# EAGLE library part MAX31855 (library Custom_new)
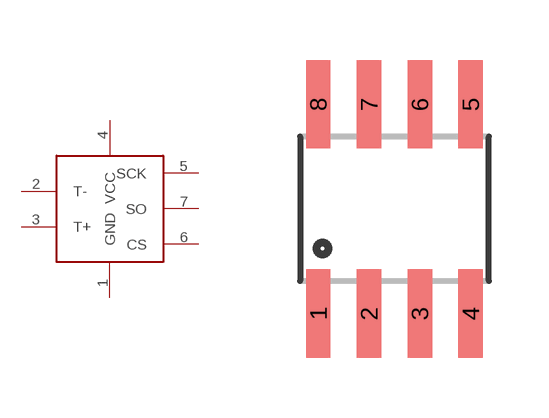
[diagram p6: symbol with the pads of SOIC8; footprint SOIC8]

Designator prefix -

## MAX31855  [SOIC8]
1  GND
2  T-
3  T+
4  VCC
5  SCK
6  CS
7  SO

## Footprint SOIC8 (pad centres in mm)
smd 0.61 x 2.21: 1 -1.905,-2.616; 2 -0.635,-2.616; 3 0.635,-2.616; 4 1.905,-2.616; 5 1.905,2.616; 6 0.635,2.616; 7 -0.635,2.616; 8 -1.905,2.616